# EAGLE library part ESDU5V0H4 (library ESDU5V0H4)
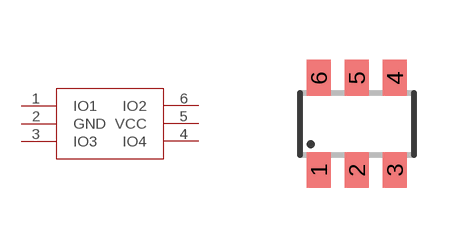
[diagram p0: symbol with the pads of SOT-23-6; footprint SOT-23-6]

Designator prefix -

## ESDU5V0H4  [SOT-23-6]
1  IO1
2  GND
3  IO3
4  IO4
5  VCC
6  IO2

## Footprint SOT-23-6 (pad centres in mm)
smd 0.6 x 0.9: 1 -0.95,-1.15; 2 0,-1.15; 3 0.95,-1.15; 4 0.95,1.15; 5 0,1.15; 6 -0.95,1.15